# EAGLE library part 6513 (library commodore)
* 4k addressable bytes of memory (A0-A11) * Two phase clock input * #IRQ and #NMI interrupt * 8bit bi-dir data bus Information is taken from "Commodore Semiconductor Group - NMOS 6502 MICROPROCESSORS NOVEMBER 1985".
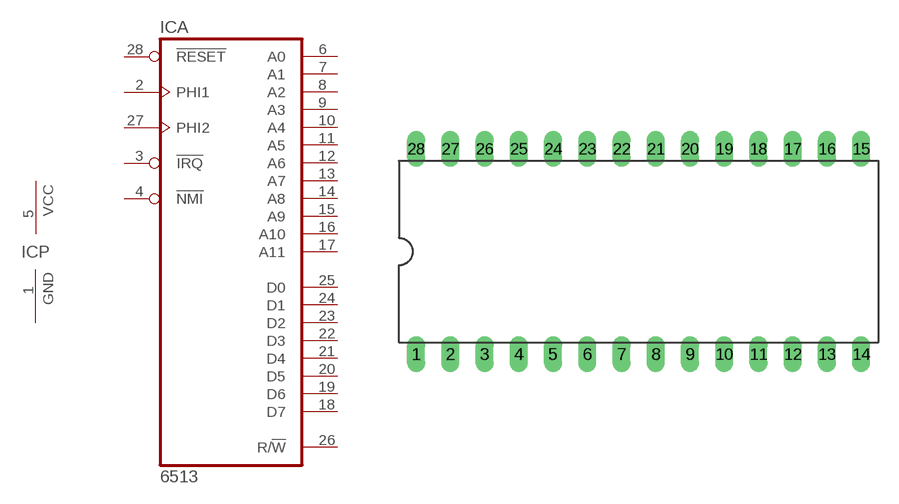
[diagram p6: symbol with the pads of DIL28; footprint DIL28]

Designator prefix IC; gates A=6513 P=PWR-GND

## 6513  [DIL28]
1  P:GND  pwr
2  A:PHI1  in
3  A:!IRQ  in
4  A:!NMI  in
5  P:VCC  pwr
6  A:A0  out
7  A:A1  out
8  A:A2  out
9  A:A3  out
10  A:A4  out
11  A:A5  out
12  A:A6  out
13  A:A7  out
14  A:A8  out
15  A:A9  out
16  A:A10  out
17  A:A11  out
18  A:D7
19  A:D6
20  A:D5
21  A:D4
22  A:D3
23  A:D2
24  A:D1
25  A:D0
26  A:R/!W  out
27  A:PHI2  in
28  A:!RESET  in

## Footprint DIL28 (pad centres in mm)
Dual In Line Package
drill 0.813 long: 1 -16.51,-7.62; 2 -13.97,-7.62; 3 -11.43,-7.62; 4 -8.89,-7.62; 5 -6.35,-7.62; 6 -3.81,-7.62; 7 -1.27,-7.62; 8 1.27,-7.62; 9 3.81,-7.62; 10 6.35,-7.62; 11 8.89,-7.62; 12 11.43,-7.62; 13 13.97,-7.62; 14 16.51,-7.62; 15 16.51,7.62; 16 13.97,7.62; 17 11.43,7.62; 18 8.89,7.62; 19 6.35,7.62; 20 3.81,7.62; 21 1.27,7.62; 22 -1.27,7.62; 23 -3.81,7.62; 24 -6.35,7.62; 25 -8.89,7.62; 26 -11.43,7.62; 27 -13.97,7.62; 28 -16.51,7.62